# Altium footprint library JC0603C-1.PcbLib: 1 footprints
Each footprint in its own frame and in the unit in brackets; x right, y up, seen from the top. Pads: shape width x height; smd on the part's side, far side on the other; paste and mask are expansions set on the pad; w line width, h text height; cw(c..) or ccw(c..) is an arc to the next point about the centre after c.
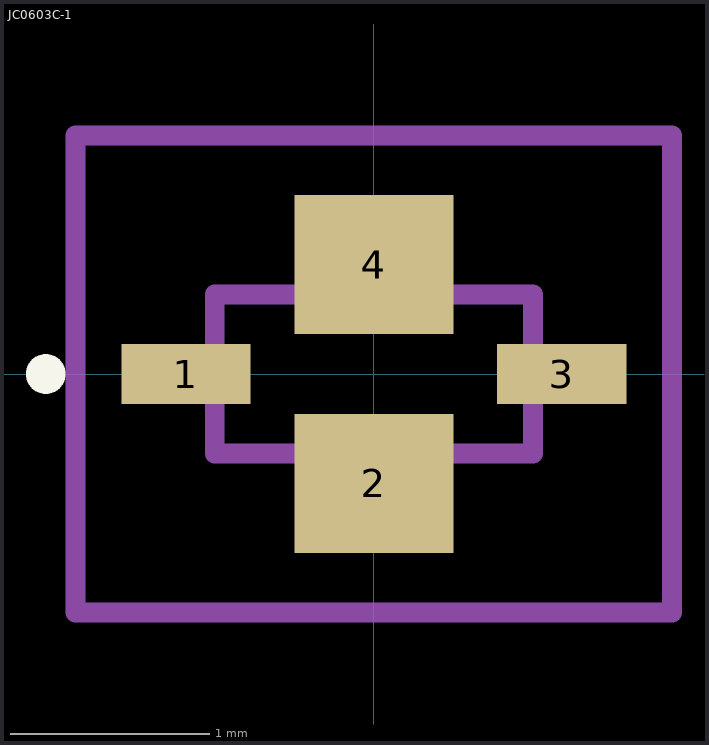
[diagram p0: the footprint, top view; thin cyan lines are the x and y axes]

## JC0603C-1 [mm]
height 0.6
pads (4):
  rect 0.65x0.3 smd mask+0.05: 1(-0.945,0) 3(0.945,0)
  rect 0.8x0.7 smd mask+0.05: 2(0,-0.55) 4(0,0.55)
Top Overlay:
  lines w0.1: -1.7,0 cw(c-1.65,0) -1.6,0 cw(c-1.65,0) -1.7,0
Top Courtyard:
  lines w0.1: -0.8,-0.4 0.8,-0.4 0.8,0.4 -0.8,0.4 -0.8,-0.4
Mechanical 15:
  lines w0.1: -1.5,-1.2 1.5,-1.2 1.5,1.2 -1.5,1.2 -1.5,-1.2
3D body "LFCW-8700+.stp": height 0.81, standoff 0, extent -1.24,-0.83 1.24,0.83